# Altium schematic symbol library BISHE.SchLib: 5 symbols
Pins are listed as number, name and electrical type; pins without a type are passive.

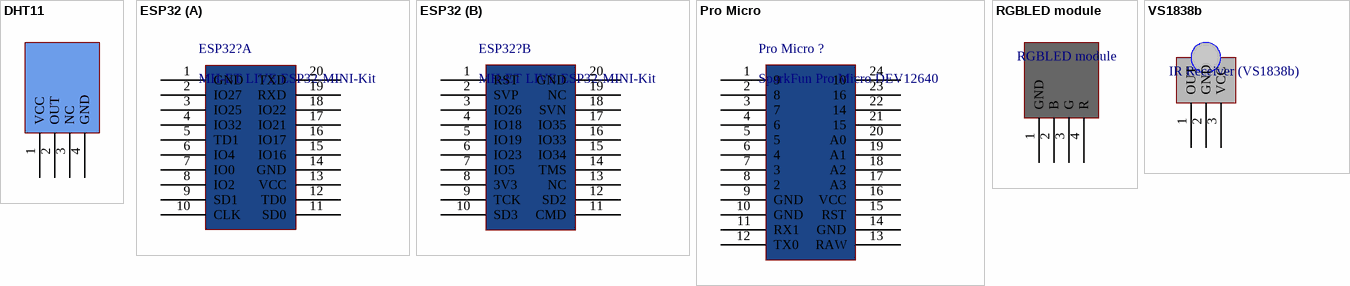
[diagram p0: symbols DHT11 to VS1838b]

## DHT11
designator *  (value not drawn)
pins: 1 VCC, 2 OUT, 3 NC, 4 GND

## ESP32
designator ESP32?, comment MH-ET LIVE ESP32-MINI-Kit
part A pins: 1 GND, 2 IO27, 3 IO25, 4 IO32, 5 TD1, 6 IO4, 7 IO0, 8 IO2, 9 SD1, 10 CLK, 11 SD0, 12 TD0, 13 VCC, 14 GND, 15 IO16, 16 IO17, 17 IO21, 18 IO22, 19 RXD, 20 TXD
part B pins: 1 RST, 2 SVP, 3 IO26, 4 IO18, 5 IO19, 6 IO23, 7 IO5, 8 3V3, 9 TCK, 10 SD3, 11 CMD, 12 SD2, 13 NC, 14 TMS, 15 IO34, 16 IO33, 17 IO35, 18 SVN, 19 NC, 20 GND

## Pro Micro
designator Pro Micro ?, comment SparkFun Pro Micro DEV12640
pins: 1 9, 2 8, 3 7, 4 6, 5, 6 4, 7 3, 8 2, 9 GND, 10 GND, 11 RX1, 12 TX0, 13 RAW, 14 GND, 15 RST, 16 VCC, 17 A3, 18 A2, 19 A1, 20 A0, 21 15, 22 14, 23 16, 24 10

## RGBLED module
designator *
pins: 1 GND, 2 B, 3 G, 4 R

## VS1838b
designator *, comment IR Receiver (VS1838b)
pins: 1 OUT, 2 GND, 3 VCC